# Altium footprint library uno.PcbLib: 1 footprints
Each footprint in its own frame and in the unit in brackets; x right, y up, seen from the top. Pads: shape width x height; smd on the part's side, far side on the other; paste and mask are expansions set on the pad; w line width, h text height; cw(c..) or ccw(c..) is an arc to the next point about the centre after c.
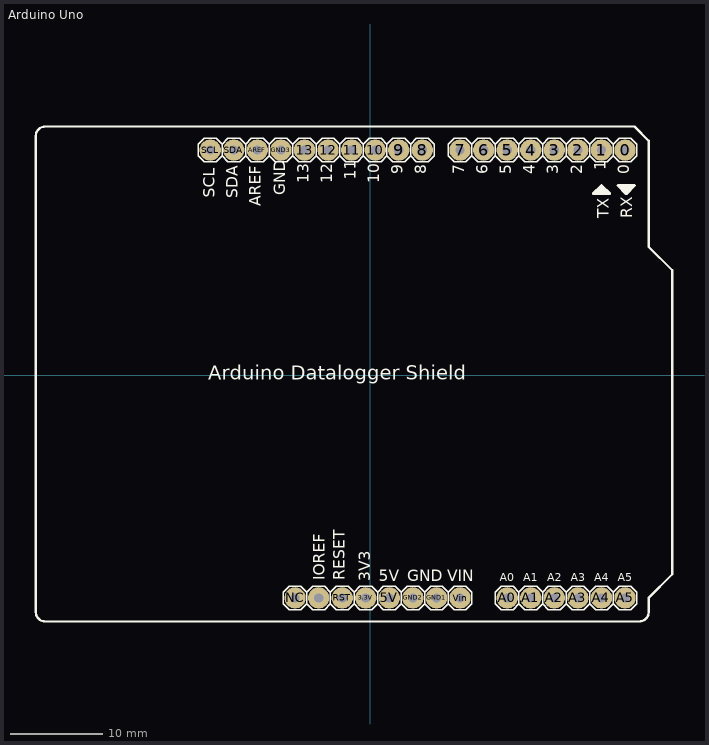
[diagram p0: the footprint, top view; thin cyan lines are the x and y axes]

## Arduino Uno [mm]
pads (32):
  round 2.3 hole 1: 0(27.44,24.26) 1(24.9,24.26) 2(22.36,24.26) 3(19.82,24.26) 3.3V(-0.5,-24) 4(17.28,24.26) 5(14.74,24.26) 5V(2.04,-24) 6(12.2,24.26) 7(9.66,24.26) 8(5.596,24.26) 9(3.056,24.26) 10(0.516,24.26) 11(-2.024,24.26) 12(-4.564,24.26) 13(-7.104,24.26) A0(14.74,-24) A1(17.28,-24) A2(19.82,-24) A3(22.36,-24) A4(24.9,-24) A5(27.44,-24) AREF(-12.184,24.26) GND1(7.12,-24) GND2(4.58,-24) GND3(-9.644,24.26) IOREF(-5.58,-24) NC(-8.12,-24) RST(-3.04,-24) SCL(-17.264,24.26) SDA(-14.724,24.26) Vin(9.66,-24)
Top Overlay:
  drawing of 255 lines, arcs and shapes, not listed
  text "Arduino Datalogger Shield" at -17.5,-0.5 h1.52
  text "SDA" at -14.271,19.087 h1.21
  text "SCL" at -16.8,19.1 h1.21
  text "0" at 27.887,21.676 h1.21
  text "1" at 25.347,22.079 h1.21
  text "2" at 22.807,21.676 h1.21
  text "3" at 20.267,21.676 h1.21
  text "4" at 17.727,21.676 h1.21
  text "5" at 15.187,21.676 h1.21
  text "6" at 12.647,21.676 h1.21
  text "7" at 10.107,21.676 h1.21
  text "8" at 6.043,21.676 h1.21
  text "9" at 3.503,21.676 h1.21
  text "10" at 0.963,20.669 h1.21
  text "11" at -1.577,21.072 h1.21
  text "12" at -4.117,20.669 h1.21
  text "13" at -6.657,20.669 h1.21
  text "RX" at 28.202,16.894 h1.21
  text "TX" at 25.662,16.919 h1.21
  text "IOREF" at -4.945,-22.095 h1.21
  text "GND" at 3.97,-22.222 h1.21
  text "VIN" at 8.263,-22.222 h1.21
  text "A5" at 26.653,-22.197 h0.86
  text "A4" at 24.113,-22.197 h0.86
  text "A3" at 21.573,-22.197 h0.86
  text "A2" at 19.033,-22.197 h0.86
  text "A1" at 16.493,-22.197 h0.86
  text "3V3" at 0.008,-22.222 h1.21
  text "RESET" at -2.786,-22.095 h1.21
  text "GND" at -9.172,19.386 h1.21
  text "AREF" at -11.814,18.203 h1.21
  text "A0" at 13.953,-22.197 h0.86
  text "5V" at 0.897,-22.222 h1.21